# Altium footprint library PcbLib1.PcbLib: 1 footprints
Each footprint in its own frame and in the unit in brackets; x right, y up, seen from the top. Pads: shape width x height; smd on the part's side, far side on the other; paste and mask are expansions set on the pad; w line width, h text height; cw(c..) or ccw(c..) is an arc to the next point about the centre after c.
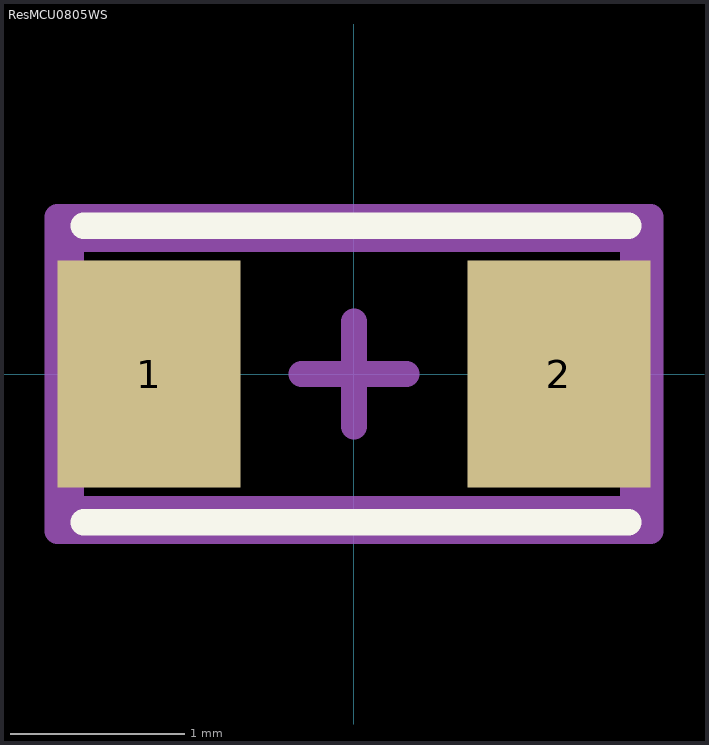
[diagram p0: the footprint, top view; thin cyan lines are the x and y axes]

## ResMCU0805WS [mm]
pads (2):
  rect 1.05x1.3 smd: 1(-1.175,0) 2(1.175,0)
Top Overlay:
  lines w0.15: -1.55,-0.85 1.575,-0.85 ; -1.55,0.85 1.575,0.85
Mechanical 15:
  lines w0.15: -0.3,0 0.3,0 ; 0,-0.3 0,0.3 ; -1.7,-0.9 1.7,-0.9 1.7,0.9 -1.7,0.9 -1.7,-0.9
Mechanical 29:
  lines w0.15: -1.625,-0.775 -1.625,0.775 1.6,0.775 1.6,-0.775 -1.625,-0.775
3D body: height 0.5, standoff 0, extent 0.4,-0.6 1,0.6
3D body: height 0.5, standoff 0, extent -0.4,-0.6 0.4,0.6
3D body: height 0.5, standoff 0, extent -1,-0.6 -0.4,0.6